# Altium footprint library PRECI-DIP_90224-AS.PcbLib: 1 footprints
Each footprint in its own frame and in the unit in brackets; x right, y up, seen from the top. Pads: shape width x height; smd on the part's side, far side on the other; paste and mask are expansions set on the pad; w line width, h text height; cw(c..) or ccw(c..) is an arc to the next point about the centre after c.
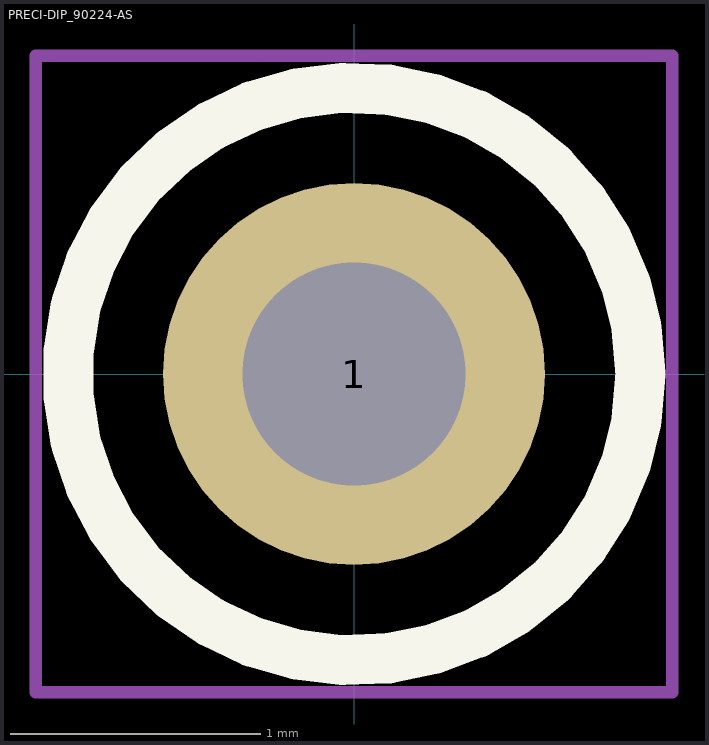
[diagram p0: the footprint, top view; thin cyan lines are the x and y axes]

## PRECI-DIP_90224-AS [mil]
pads (1):
  round 60 hole 35: 1(0,0)
Top Overlay:
  circle w7.87: c0,0 r45
Mechanical 15:
  lines w1.97: -50,-50 -50,50 50,50 50,-50 -50,-50
3D body: height 0, standoff -78.74, extent -15.62,-15.71 15.75,15.72
3D body: height 311.02, standoff 273.23, extent -18.69,-18.81 18.91,18.82
3D body: height 292.13, standoff 0, extent -18.74,-18.85 18.91,18.87
3D body: height 228.35, standoff 0, extent -31.63,-31.82 31.9,31.83
3D body: height 19.68, standoff 0, extent -35.73,-35.95 36.03,35.96